# EAGLE library part BQ27441DRZR-G1A (library BQ27441DRZR-G1A)
System-Side Impedance Track Battery Fuel (Gas) Gauge Source: Datasheet <http://www.ti.com/lit/gpn/bq27441-g1>
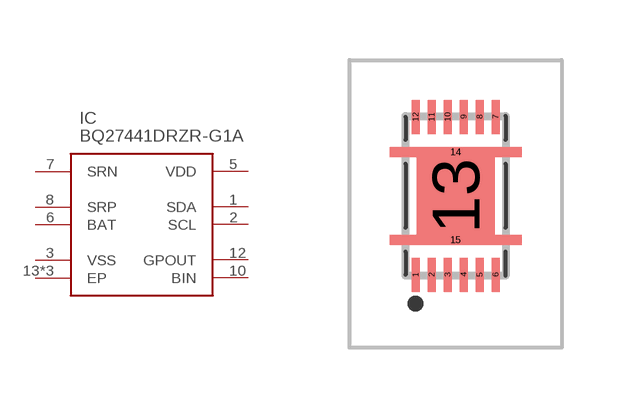
[diagram p0: symbol with the pads of BQ27441DRZRG1A; footprint BQ27441DRZRG1A]

Designator prefix IC

## BQ27441DRZR-G1A (ARROW_PART_NUMBER: BQ27441DRZR-G1A; ARROW_PRICE-STOCK: https://www.arrow.com/en/products/bq27441drzr-g1a/texas-instruments; DESCRIPTION: System-Side Impedance Track Battery Fuel (Gas) Gauge; HEIGHT: mm; MANUFACTURER_NAME: Texas Instruments; MANUFACTURER_PART_NUMBER: BQ27441DRZR-G1A)  [BQ27441DRZRG1A]
1  SDA
2  SCL
3  VSS
5  VDD
6  BAT
7  SRN
8  SRP
10  BIN
12  GPOUT
13  EP
14  EP
15  EP

## Footprint BQ27441DRZRG1A (pad centres in mm)
DRZ (S-PDSO-N12)
smd 0.2 x 0.85: 1 -1,-1.975; 2 -0.6,-1.975; 3 -0.2,-1.975; 4 0.2,-1.975; 5 0.6,-1.975; 6 1,-1.975; 7 1,1.975; 8 0.6,1.975; 9 0.2,1.975; 10 -0.2,1.975; 11 -0.6,1.975; 12 -1,1.975
smd 1.95 x 1.95: 13 0,0
smd 3.3 x 0.25: 14 0,1.1; 15 0,-1.1